# EAGLE library part LM5155 (library ruark2)
Boost, Flyback, SEPIC Regulator Positive Output Step-Up, Step-Up/Step-Down DC-DC Controller IC 12-WSON (3x2)
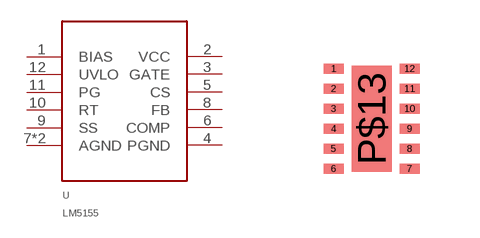
[diagram p126: symbol with the pads of 12-WSON; footprint 12-WSON]

Designator prefix U

## LM5155 (PARTNO: 296-LM5155DSSRCT-ND)  [12-WSON]
1  BIAS
2  VCC
3  GATE
4  PGND
5  CS
6  COMP
7  AGND
8  FB
9  SS
10  RT
11  PG
12  UVLO
P$13  AGND

## Footprint 12-WSON (pad centres in mm)
smd 0.5 x 0.25: 1 -0.95,1.25; 2 -0.95,0.75; 3 -0.95,0.25; 4 -0.95,-0.25; 5 -0.95,-0.75; 6 -0.95,-1.25; 7 0.95,-1.25; 8 0.95,-0.75; 9 0.95,-0.25; 10 0.95,0.25; 11 0.95,0.75; 12 0.95,1.25
smd 1 x 2.65: P$13 0,0